# Altium footprint library PM3316.PcbLib: 1 footprints
Each footprint in its own frame and in the unit in brackets; x right, y up, seen from the top. Pads: shape width x height; smd on the part's side, far side on the other; paste and mask are expansions set on the pad; w line width, h text height; cw(c..) or ccw(c..) is an arc to the next point about the centre after c.
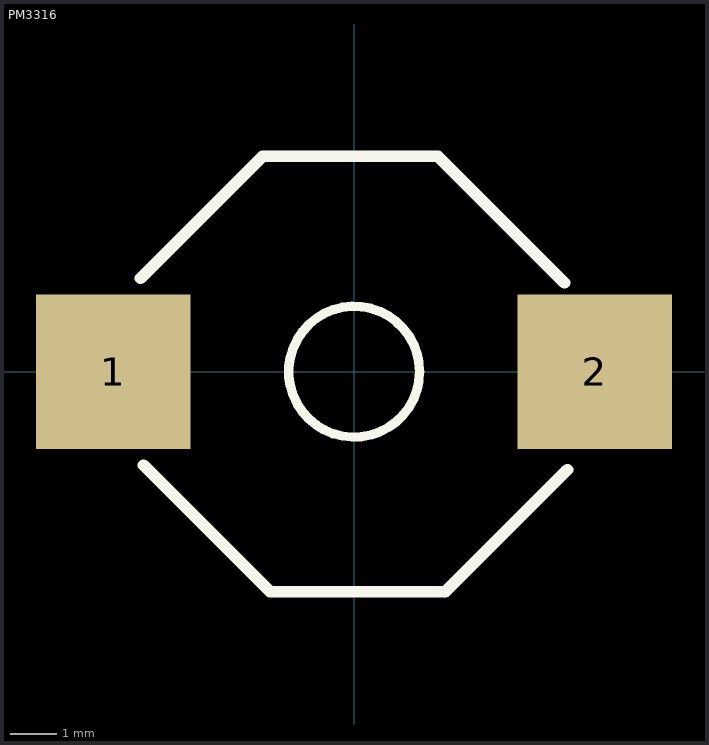
[diagram p0: the footprint, top view; thin cyan lines are the x and y axes]

## PM3316 [mm]
height 5.21
pads (2):
  rect 3.3x3.3 smd: 1(-5.143,0) 2(5.143,0)
Top Overlay:
  circle w0.2: c0.003,0 r1.397
  lines w0.2: -1.388,4.599 -0.033,4.6 ; 0.033,-4.7 1.388,-4.699
  lines w0.254: -4.556,1.995 -1.95,4.6 -0.033,4.6 1.791,4.599 4.491,1.899 ; -4.491,-1.999 -1.791,-4.699 0.033,-4.7 1.95,-4.7 4.556,-2.095
3D body: height 5.37, standoff 0, extent -6.53,-4.7 6.68,4.7